# Altium footprint library PcbLib1.PcbLib: 58 footprints (part 4 of 4)
Each footprint in its own frame and in the unit in brackets; x right, y up, seen from the top. Pads: shape width x height; smd on the part's side, far side on the other; paste and mask are expansions set on the pad; w line width, h text height; cw(c..) or ccw(c..) is an arc to the next point about the centre after c.
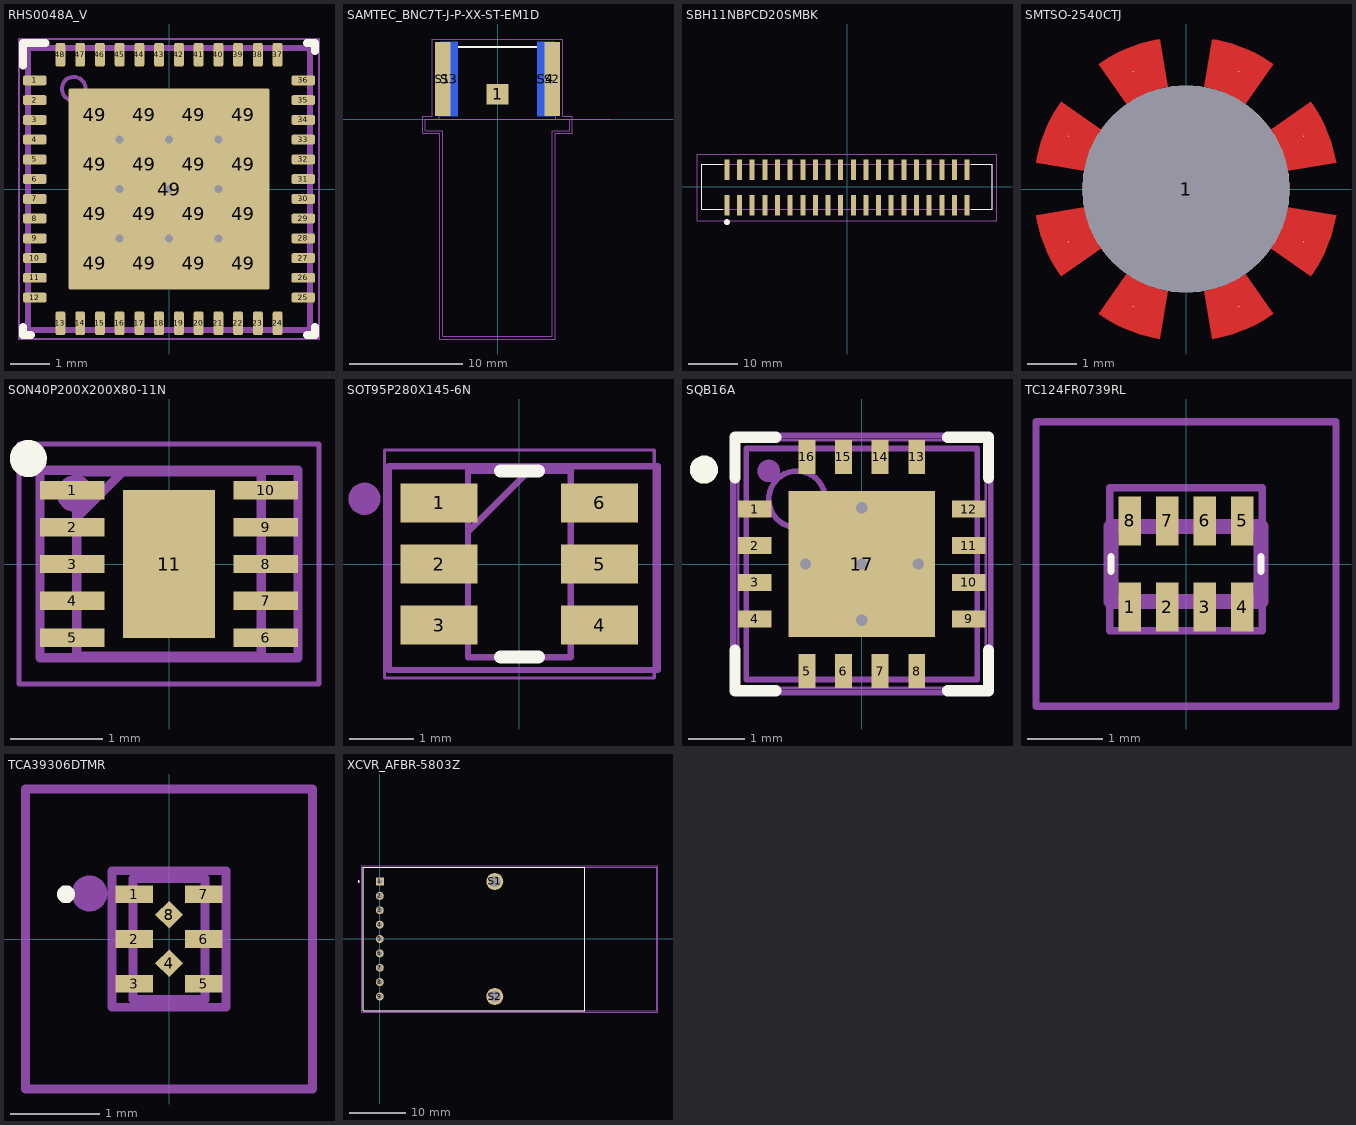
[diagram p3: the footprints below, top view; thin cyan lines are the x and y axes]

## RHS0048A_V [mm] "QFN, 48-Leads, Body 7x7mm, Pitch 0.5mm, TI Recommended"
height 0.8
pads (65):
  rrect40% 0.6x0.25 smd: 1(-3.4,2.75) 2(-3.4,2.25) 3(-3.4,1.75) 4(-3.4,1.25) 5(-3.4,0.75) 6(-3.4,0.25) 7(-3.4,-0.25) 8(-3.4,-0.75) 9(-3.4,-1.25) 10(-3.4,-1.75) 11(-3.4,-2.25) 12(-3.4,-2.75) 25(3.4,-2.75) 26(3.4,-2.25) 27(3.4,-1.75) 28(3.4,-1.25) 29(3.4,-0.75) 30(3.4,-0.25) 31(3.4,0.25) 32(3.4,0.75) 33(3.4,1.25) 34(3.4,1.75) 35(3.4,2.25) 36(3.4,2.75)
  rrect40% 0.25x0.6 smd: 13(-2.75,-3.4) 14(-2.25,-3.4) 15(-1.75,-3.4) 16(-1.25,-3.4) 17(-0.75,-3.4) 18(-0.25,-3.4) 19(0.25,-3.4) 20(0.75,-3.4) 21(1.25,-3.4) 22(1.75,-3.4) 23(2.25,-3.4) 24(2.75,-3.4) 37(2.75,3.4) 38(2.25,3.4) 39(1.75,3.4) 40(1.25,3.4) 41(0.75,3.4) 42(0.25,3.4) 43(-0.25,3.4) 44(-0.75,3.4) 45(-1.25,3.4) 46(-1.75,3.4) 47(-2.25,3.4) 48(-2.75,3.4)
  rrect10% 1.05x1.05 on Top Paste: 49(-1.875,-1.875) 49(-1.875,-0.625) 49(-1.875,0.625) 49(-1.875,1.875) 49(-0.625,-1.875) 49(-0.625,-0.625) 49(-0.625,0.625) 49(-0.625,1.875) 49(0.625,-1.875) 49(0.625,-0.625) 49(0.625,0.625) 49(0.625,1.875) 49(1.875,-1.875) 49(1.875,-0.625) 49(1.875,0.625) 49(1.875,1.875)
  rrect2% 5.1x5.1 smd paste-2.55: 49(0,0)
via 0,0 diameter 0.35 hole 0.2
via 1.25,0 diameter 0.35 hole 0.2
via -1.25,0 diameter 0.35 hole 0.2
via -1.25,1.25 diameter 0.35 hole 0.2
via 1.25,1.25 diameter 0.35 hole 0.2
via 0,1.25 diameter 0.35 hole 0.2
via 0,-1.25 diameter 0.35 hole 0.2
via 1.25,-1.25 diameter 0.35 hole 0.2
via -1.25,-1.25 diameter 0.35 hole 0.2
Top Overlay:
  lines w0.2: -3.7,-3.5 -3.7,-3.7 -3.5,-3.7 ; -3.7,3.125 -3.7,3.7 -3.125,3.7 ; 3.5,-3.7 3.7,-3.7 3.7,-3.5 ; 3.5,3.7 3.7,3.7 3.7,3.5
Top Courtyard:
  lines w0.05: -3.8,-3.8 3.8,-3.8 3.8,3.8 -3.8,3.8 -3.8,-3.8
  lines w0.1: -0.5,0 0.5,0 ; 0,-0.5 0,0.5
Top Assembly:
  circle w0.1: c-2.413,2.54 r0.3
  lines w0.15: -3.575,-3.575 3.575,-3.575 3.575,3.575 -3.575,3.575 -3.575,-3.575
  text ".Designator" at -1.9,-0.5 h1
  text "1" at -2.794,2.54 h1
3D body: height 0.8, standoff 0, extent -3.574,-3.574 3.574,3.574
3D body: height 0.81, standoff 0.5, extent -2.712,2.241 -2.114,2.839

## SAMTEC_BNC7T-J-P-XX-ST-EM1D [mm]
pads (5):
  rect 1.98x1.83 smd: 1(0,2.185)
  rect 1.35x6.55 smd: S1(-4.825,3.525) S2(4.825,3.525)
  rect 1.5x6.55 smd far side: S3(-4.25,3.525) S4(4.25,3.525)
Top Overlay:
  lines w0.2: -3.8,6.35 3.8,6.35
Mechanical 13:
  lines w0.1: 9.95,0 6.35,0 ; -5.15,0 5.15,0 ; -5.15,0 -6.35,0 -6.35,-1.02 -4.825,-1.02 -4.825,-19.13 4.825,-19.13 4.825,-1.02 6.35,-1.02 6.35,0 ; -5.15,0 -5.15,6.35 5.15,6.35 5.15,0 ; 5.15,0 6.35,0
  text "PCB Edge" at 6.25,0.25 h1.27
Mechanical 15:
  lines w0.05: -6.6,-1.27 -5.075,-1.27 -5.075,-19.38 5.075,-19.38 5.075,-1.27 6.6,-1.27 6.6,0.25 5.75,0.25 5.75,7.05 -5.75,7.05 -5.75,0.25 -6.6,0.25 -6.6,-1.27
3D body "BNC7T-J-P-GN-ST-EM1D.stp": height 8.63, standoff -7.36, extent -7.994,-19.13 7.994,6.35

## SBH11NBPCD20SMBK [mm]
pads (40):
  rect 1x4.15 smd: 1(-24.13,-3.725) 2(-24.13,3.425) 3(-21.59,-3.725) 4(-21.59,3.425) 5(-19.05,-3.725) 6(-19.05,3.425) 7(-16.51,-3.725) 8(-16.51,3.425) 9(-13.97,-3.725) 10(-13.97,3.425) 11(-11.43,-3.725) 12(-11.43,3.425) 13(-8.89,-3.725) 14(-8.89,3.425) 15(-6.35,-3.725) 16(-6.35,3.425) 17(-3.81,-3.725) 18(-3.81,3.425) 19(-1.27,-3.725) 20(-1.27,3.425) 21(1.27,-3.725) 22(1.27,3.425) 23(3.81,-3.725) 24(3.81,3.425) 25(6.35,-3.725) 26(6.35,3.425) 27(8.89,-3.725) 28(8.89,3.425) 29(11.43,-3.725) 30(11.43,3.425) 31(13.97,-3.725) 32(13.97,3.425) 33(16.51,-3.725) 34(16.51,3.425) 35(19.05,-3.725) 36(19.05,3.425) 37(21.59,-3.725) 38(21.59,3.425) 39(24.13,-3.725) 40(24.13,3.425)
Top Overlay:
  circle w0.6: c-24.13,-7.112 r0.3
  lines w0.2: -25,-4.55 -29.15,-4.55 -29.15,4.55 -25,4.55 ; 25,-4.55 29.15,-4.55 29.15,4.55 25,4.55
Mechanical 13:
  lines w0.1: -29.15,-4.55 -29.15,4.55 29.15,4.55 29.15,-4.55 -29.15,-4.55
Mechanical 15:
  lines w0.1: -30.15,-6.8 -30.15,6.5 30.15,6.5 30.15,-6.8 -30.15,-6.8
3D body "HTST-120-01-L-DV.stp": height 10.16, standoff 0, extent -29.21,-5.588 29.21,5.588

## SMTSO-2540CTJ [mil] "M2.5 L:40mm BRASS SMT surface mount nut post"
height 1574.8
pads (9):
  round 1 smd: 1(-94.12,-42.21) 1(-94.12,42.21) 1(-42.21,-94.12) 1(-42.21,94.12) 1(42.21,-94.12) 1(42.21,94.12) 1(94.12,-42.21) 1(94.12,42.21)
  round 166.14 hole 166.14 paste+0 mask+4: 1(0,0)
Top Layer:
  region: -47.65,-68.05 -45.77,-69.32 -41.93,-71.71 -37.96,-73.89 -33.87,-75.85 -29.69,-77.59 -25.41,-79.09 -21.06,-80.36 -16.65,-81.39 -14.43,-81.81 -21.19,-120.19 -24.47,-119.61 -30.96,-118.1 -37.35,-116.24 -43.63,-114.03 -49.78,-111.48 -55.78,-108.6 -61.62,-105.4 -67.28,-101.88 -70,-99.98
  region: 14.43,-81.81 16.65,-81.39 21.06,-80.36 25.41,-79.09 29.69,-77.59 33.87,-75.85 37.96,-73.89 41.93,-71.71 45.77,-69.32 47.65,-68.05 70,-99.98 67.28,-101.88 61.62,-105.4 55.78,-108.6 49.78,-111.48 43.63,-114.03 37.35,-116.24 30.96,-118.1 24.47,-119.61 21.19,-120.19
  region: 68.05,-47.65 69.32,-45.77 71.71,-41.93 73.89,-37.96 75.85,-33.87 77.59,-29.69 79.09,-25.41 80.36,-21.06 81.39,-16.65 81.81,-14.43 120.19,-21.19 119.61,-24.47 118.1,-30.96 116.24,-37.35 114.03,-43.63 111.48,-49.78 108.6,-55.78 105.4,-61.62 101.88,-67.28 99.98,-70
  region: 81.81,14.43 81.39,16.65 80.36,21.06 79.09,25.41 77.59,29.69 75.85,33.87 73.89,37.96 71.71,41.93 69.32,45.77 68.05,47.65 99.98,70 101.88,67.28 105.4,61.62 108.6,55.78 111.48,49.78 114.03,43.63 116.24,37.35 118.1,30.96 119.61,24.47 120.19,21.19
  region: 47.65,68.05 45.77,69.32 41.93,71.71 37.96,73.89 33.87,75.85 29.69,77.59 25.41,79.09 21.06,80.36 16.65,81.39 14.43,81.81 21.19,120.19 24.47,119.61 30.96,118.1 37.35,116.24 43.63,114.03 49.78,111.48 55.78,108.6 61.62,105.4 67.28,101.88 70,99.98
  region: -14.43,81.81 -16.65,81.39 -21.06,80.36 -25.41,79.09 -29.69,77.59 -33.87,75.85 -37.96,73.89 -41.93,71.71 -45.77,69.32 -47.65,68.05 -70,99.98 -67.28,101.88 -61.62,105.4 -55.78,108.6 -49.78,111.48 -43.63,114.03 -37.35,116.24 -30.96,118.1 -24.47,119.61 -21.19,120.19
  region: -68.05,47.65 -69.32,45.77 -71.71,41.93 -73.89,37.96 -75.85,33.87 -77.59,29.69 -79.09,25.41 -80.36,21.06 -81.39,16.65 -81.81,14.43 -120.19,21.19 -119.61,24.47 -118.1,30.96 -116.24,37.35 -114.03,43.63 -111.48,49.78 -108.6,55.78 -105.4,61.62 -101.88,67.28 -99.98,70
  region: -81.81,-14.43 -81.39,-16.65 -80.36,-21.06 -79.09,-25.41 -77.59,-29.69 -75.85,-33.87 -73.89,-37.96 -71.71,-41.93 -69.32,-45.77 -68.05,-47.65 -99.98,-70 -101.88,-67.28 -105.4,-61.62 -108.6,-55.78 -111.48,-49.78 -114.03,-43.63 -116.24,-37.35 -118.1,-30.96 -119.61,-24.47 -120.19,-21.19
3D body "M2.5x0.45 L4.stp": height 157.48, standoff -60.24, extent -109.45,-108.98 109.45,108.98

## SON40P200X200X80-11N [mm]
pads (11):
  rect 0.7x0.2 smd: 1(-1.05,0.8) 2(-1.05,0.4) 3(-1.05,0) 4(-1.05,-0.4) 5(-1.05,-0.8) 6(1.05,-0.8) 7(1.05,-0.4) 8(1.05,0) 9(1.05,0.4) 10(1.05,0.8)
  rect 1x1.6 smd: 11(0,0)
Top Overlay:
  lines w0.2: -1.624,1.141 ccw(c-1.524,1.143) -1.624,1.143
Top Assembly:
  circle w0.2: c-1.016,0.762 r0.1
  lines w0.1: -1.397,-1.016 -1.397,1.016 1.397,1.016 1.397,-1.016 -1.397,-1.016
  text ".Designator" at -0.891,-0.221 h1
Mechanical 13:
  lines w0.1: -1,0.5 -0.5,1 ; -1,-1 1,-1 1,1 -1,1 -1,-1
Mechanical 15:
  lines w0.05: -1.625,-1.3 1.625,-1.3 1.625,1.3 -1.625,1.3 -1.625,-1.3
3D body "TPS51206DSQR.stp": height 0.8, standoff 0, extent -1,-1 1,1

## SOT95P280X145-6N [mm]
pads (6):
  rect 1.2x0.6 smd: 1(-1.25,0.95) 2(-1.25,0) 3(-1.25,-0.95) 4(1.25,-0.95) 5(1.25,0) 6(1.25,0.95)
Top Overlay:
  lines w0.2: -0.296,-1.45 0.296,-1.45 ; -0.296,1.45 0.296,1.45
Top Assembly:
  circle w0.3: c-2.413,1.016 r0.1
  lines w0.1: -2.032,-1.651 2.159,-1.651 2.159,1.524 -2.032,1.524 -2.032,-1.651
  text "1" at -1.016,0.889 h1
  text ".Designator" at -1.27,-0.381 h1.5
Mechanical 13:
  lines w0.1: -0.8,0.5 0.15,1.45 ; -0.8,-1.45 0.8,-1.45 0.8,1.45 -0.8,1.45 -0.8,-1.45
Mechanical 15:
  lines w0.05: -2.1,-1.775 2.1,-1.775 2.1,1.775 -2.1,1.775 -2.1,-1.775
3D body "LMR54406DBVR.stp": height 1.2, standoff 0, extent -1.4,-1.45 1.4,1.45

## SQB16A [mm] "QFN, 16-Leads, Body 4x4mm, Pitch 0.65mm, Thermal Pad 2.6x2.6mm, NSC Recommended"
height 0.8
pads (17):
  rect 0.6x0.3 smd paste-0.15 mask+0.051: 1(-1.9,0.975) 2(-1.9,0.325) 3(-1.9,-0.325) 4(-1.9,-0.975) 9(1.9,-0.975) 10(1.9,-0.325) 11(1.9,0.325) 12(1.9,0.975)
  rect 0.3x0.6 smd paste-0.15 mask+0.051: 5(-0.975,-1.9) 6(-0.325,-1.9) 7(0.325,-1.9) 8(0.975,-1.9) 13(0.975,1.9) 14(0.325,1.9) 15(-0.325,1.9) 16(-0.975,1.9)
  rect 2.6x2.6 smd paste-1.3 mask+0.051: 17(0,0)
via 0,-1 diameter 0.35 hole 0.2
via 0,1 diameter 0.35 hole 0.2
via -1,0 diameter 0.35 hole 0.2
via 1,0 diameter 0.35 hole 0.2
via 0,0 diameter 0.35 hole 0.2
Top Overlay:
  circle w0.25: c-2.8,1.675 r0.125
  lines w0.2: -2.25,-1.525 -2.25,-2.25 -1.525,-2.25 ; -2.25,1.525 -2.25,2.25 -1.525,2.25 ; 1.525,-2.25 2.25,-2.25 2.25,-1.525 ; 1.525,2.25 2.25,2.25 2.25,1.525
Top Paste:
  rectangle: 0.1,-1.2 1.2,-0.1
  region: -0.1,-0.1 -1.2,-0.1 -1.2,-1.2 -0.1,-1.2
  region: -0.1,1.2 -1.2,1.2 -1.2,0.1 -0.1,0.1
  rectangle: 0.1,0.1 1.2,1.2
  region: 0.825,2.4 0.825,1.7 1.125,1.7 1.125,2.4
  region: 0.175,2.4 0.175,1.7 0.475,1.7 0.475,2.4
  region: -0.475,2.4 -0.475,1.7 -0.175,1.7 -0.175,2.4
  region: -1.125,2.4 -1.125,1.7 -0.825,1.7 -0.825,2.4
  region: 2.4,-0.825 1.7,-0.825 1.7,-1.125 2.4,-1.125
  region: 2.4,-0.175 1.7,-0.175 1.7,-0.475 2.4,-0.475
  region: 2.4,0.475 1.7,0.475 1.7,0.175 2.4,0.175
  region: 2.4,1.125 1.7,1.125 1.7,0.825 2.4,0.825
  region: -0.825,-2.4 -0.825,-1.7 -1.125,-1.7 -1.125,-2.4
  region: -0.175,-2.4 -0.175,-1.7 -0.475,-1.7 -0.475,-2.4
  region: 0.475,-2.4 0.475,-1.7 0.175,-1.7 0.175,-2.4
  region: 1.125,-2.4 1.125,-1.7 0.825,-1.7 0.825,-2.4
  rectangle: -2.4,-1.125 -1.7,-0.825
  rectangle: -2.4,-0.475 -1.7,-0.175
  rectangle: -2.4,0.175 -1.7,0.475
  rectangle: -2.4,0.825 -1.7,1.125
Top Assembly:
  circle w0.2: c-1.651,1.651 r0.1
  lines w0.1: -2.286,-2.286 2.286,-2.286 2.286,2.286 -2.286,2.286 -2.286,-2.286
  text ".Designator" at -1.016,-0.381 h2
  text "1" at -1.651,0.889 h0.7
Mechanical 13:
  circle w0.1: c-1.15,1.15 r0.5
  lines w0.1: -2.05,-2.05 2.05,-2.05 2.05,2.05 -2.05,2.05 -2.05,-2.05
Mechanical 15:
  lines w0.05: -2.2,-2.2 2.2,-2.2 2.2,2.2 -2.2,2.2 -2.2,-2.2
  lines w0.1: -0.5,0 0.5,0 ; 0,-0.5 0,0.5
3D body: height 0.8, standoff 0, extent -2.05,-2.05 2.05,2.05

## TC124FR0739RL [mm]
pads (8):
  rect 0.3x0.65 smd: 1(-0.75,-0.575) 2(-0.25,-0.575) 3(0.25,-0.575) 4(0.75,-0.575) 5(0.75,0.575) 6(0.25,0.575) 7(-0.25,0.575) 8(-0.75,0.575)
Top Overlay:
  lines w0.1: -1,-0.1 -1,0.1 ; 1,-0.1 1,0.1
Top Assembly:
  lines w0.1: -1.016,-0.889 1.016,-0.889 1.016,1.016 -1.016,1.016 -1.016,-0.889
  text ".Designator" at -0.762,-0.127 h1
Mechanical 13:
  lines w0.2: -1,-0.5 1,-0.5 1,0.5 -1,0.5 -1,-0.5
Mechanical 15:
  lines w0.1: -2,-1.9 2,-1.9 2,1.9 -2,1.9 -2,-1.9
3D body "TC124-FR-0739RL.stp": height 0.6, standoff 0, extent -1,-0.87 1,0.87

## TCA39306DTMR [mm]
pads (8):
  rect 0.42x0.2 smd: 1(-0.39,0.5) 2(-0.39,0) 3(-0.39,-0.5) 5(0.39,-0.5) 6(0.39,0) 7(0.39,0.5)
  rect 0.22x0.22 smd rot 135: 4(0,-0.27) 8(0,0.27)
Top Overlay:
  lines w0.1: -1.2,0.5 cw(c-1.15,0.5) -1.1,0.5 cw(c-1.15,0.5) -1.2,0.5
Top Assembly:
  circle w0.2: c-0.889,0.508 r0.1
  lines w0.1: -0.635,-0.762 -0.635,0.762 0.635,0.762 0.635,-0.762 -0.635,-0.762
  text ".Designator" at 0.254,-0.635 h0.8
Mechanical 13:
  lines w0.1: -0.4,-0.675 0.4,-0.675 0.4,0.675 -0.4,0.675 -0.4,-0.675
Mechanical 15:
  lines w0.1: -1.6,-1.675 1.6,-1.675 1.6,1.675 -1.6,1.675 -1.6,-1.675
3D body "TCA39306DTMR.stp": height 0.5, standoff 0, extent -0.4,-0.675 0.4,0.675

## XCVR_AFBR-5803Z [mm]
pads (11):
  rect 1.408x1.408 hole 0.9: 1(0,10.16)
  round 1.408 hole 0.9: 2(0,7.62) 3(0,5.08) 4(0,2.54) 5(0,0) 6(0,-2.54) 7(0,-5.08) 8(0,-7.62) 9(0,-10.16)
  round 3 hole 2: S1(20.32,10.16) S2(20.32,-10.16)
Top Overlay:
  circle w0.2: c-3.75,10.16 r0.1
  lines w0.127: -2.92,-12.7 36.2,-12.7 36.2,12.7 -2.92,12.7 -2.92,-12.7
Mechanical 13:
  circle w0.2: c-3.75,10.16 r0.1
  lines w0.127: 36.2,-12.7 48.9,-12.7 48.9,12.7 36.2,12.7 ; 36.2,-12.7 36.2,12.7 ; 36.2,-12.7 -2.92,-12.7 -2.92,12.7 36.2,12.7
Mechanical 15:
  lines w0.05: -3.17,-12.95 -3.17,12.95 49.15,12.95 49.15,-12.95 -3.17,-12.95
3D body "AFBR-5803Z.STEP": height 11.18, standoff -3.7, extent -2.921,-12.7 36.199,12.7